# EAGLE library part PCF8574* (library texas)
REMOTE 8-BIT I/O EXPANDER FOR I2C BUS
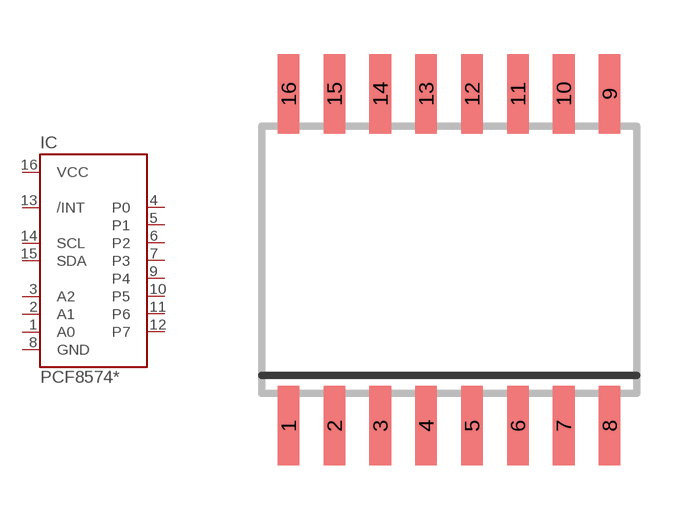
[diagram p28: symbol with the pads of SO-16DW; footprint SO-16DW]

Designator prefix IC

## PCF8574DW  [SO-16DW]
1  A0  in
2  A1  in
3  A2  in
4  P0
5  P1
6  P2
7  P3
8  GND  pwr
9  P4
10  P5
11  P6
12  P7
13  /INT  out
14  SCL  in
15  SDA
16  VCC  pwr

## Footprint SO-16DW (pad centres in mm)
Small Outline Integrated Circuit wide
smd 0.6 x 2.2: 1 -4.445,-4.6; 2 -3.175,-4.6; 3 -1.905,-4.6; 4 -0.635,-4.6; 5 0.635,-4.6; 6 1.905,-4.6; 7 3.175,-4.6; 8 4.445,-4.6; 9 4.445,4.6; 10 3.175,4.6; 11 1.905,4.6; 12 0.635,4.6; 13 -0.635,4.6; 14 -1.905,4.6; 15 -3.175,4.6; 16 -4.445,4.6